# Altium schematic symbol library Schlib1.SchLib: 7 symbols
Pins are listed as number, name and electrical type; pins without a type are passive.

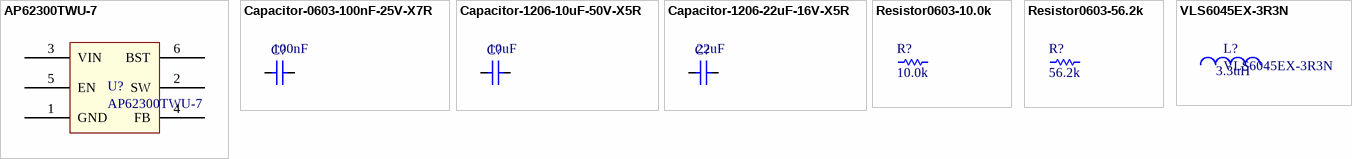
[diagram p0: symbols AP62300TWU-7 to VLS6045EX-3R3N]

## AP62300TWU-7
designator U?
Buck Switching Regulator IC Positive Adjustable 0.8V 1 Output 3A SOT-23-6 Thin, TSOT-23-6; Current: 3; Supplier 1: Digi-Key; Mounted: Yes; Package / Case: SMD SOT-23-6; Supplier Number: 31-AP62300TWU-7TR-ND
pins: 1 GND, 2 SW, 3 VIN, 4 FB, 5 EN, 6 BST

## Capacitor-0603-100nF-25V-X7R
designator C?  value 100nF  (hidden comment: Capacitor-0603-100nF-25V-X7R)
Precision: X7R-10%; Volt: 25V; Package / Case: Metric 1608, EIA 0603; Mounted: Yes; Supplier 1: Digi-Key; Supplier Part Number 1: 445-5667-1-ND; Supplier 2: Digi-Key; Supplier 3: Digi-Key; Supplier 4: Digi-Key; Supplier Part Number 2: 587-3468-1-ND; Supplier Part Number 3: 1276-6717-1-ND; Supplier Part Number 4: 399-6854-1-ND
footprint CAPACITOR-0603 (Metric 1608, EIA 0603)
pins: 1, 2

## Capacitor-1206-10uF-50V-X5R
designator C?  value 10uF  (hidden comment: Capacitor-1206-10uF-50V-X5R)
Volt: 50V; Precision: X5R-20%; Package / Case: Metric 3216, EIA 1206; Mounted: Yes; Supplier 1: Digi-Key; Supplier Part Number 1: 490-12456-1-ND; Supplier 2: Digi-Key; Supplier 3: Digi-Key; Supplier Part Number 2: 445-7886-1-ND; Supplier Part Number 3: 445-12883-1-ND
footprint CAPACITOR-1206 (Metric 3216, EIA 1206)
pins: 1, 2

## Capacitor-1206-22uF-16V-X5R
designator C?  value 22uF  (hidden comment: Capacitor-1206-22uF-16V-X5R)
Volt: 16V; Precision: X5R-20%; Package / Case: Metric 3216, EIA 1206; Mounted: Yes; Supplier 1: Digi-Key; Supplier Part Number 1: 587-3330-1-ND; Supplier 2: Digi-Key; Supplier 3: Digi-Key; Supplier 4: Digi-Key; Supplier Part Number 2: 490-12410-1-ND; Supplier Part Number 3: 490-12409-1-ND; Supplier Part Number 4: 445-12847-1-ND
footprint CAPACITOR-1206 (Metric 3216, EIA 1206)
pins: 1, 2

## Resistor0603-10.0k
designator R?, comment value 10.0k  (hidden comment: SMT resistor)
Resistor; Precision: 1%; Watt: 0.1W; Mounted: Yes; Package / Case: Metric 1608, EIA 0603; Supplier 1: Digi-Key; Supplier 2: Digi-Key; Supplier 3: Digi-Key; Supplier 4: Digi-Key; Supplier Part Number 1: P10.0kHTR-ND; Supplier Part Number 2: 311-10.0kHRTR-ND; Supplier Part Number 3: RHM10.0kCFTR-ND; Supplier Part Number 4: 541-10.0kHTR-ND
footprint Resistor-0603
pins: 1, 2

## Resistor0603-56.2k
designator R?, comment value 56.2k  (hidden comment: SMT resistor)
Resistor; Precision: 1%; Watt: 0.1W; Mounted: Yes; Package / Case: Metric 1608, EIA 0603; Supplier 1: Digi-Key; Supplier 2: Digi-Key; Supplier 3: Digi-Key; Supplier 4: Digi-Key; Supplier Part Number 1: P56.2kHTR-ND; Supplier Part Number 2: 311-56.2kHRTR-ND; Supplier Part Number 3: RHM56.2kCFTR-ND; Supplier Part Number 4: 541-56.2kHTR-ND
footprint Resistor-0603
pins: 1, 2

## VLS6045EX-3R3N
designator L?  value 3.3uH
3.3 µH Shielded Drum Core, Wirewound Inductor 4.95 A 23mOhm Nonstandard; Current: 4.95; Precision: 30%; Supplier 1: Digi-Key; Mounted: Yes; Package / Case: SMD; Supplier Number: 445-173052-2-ND
pins: 1, 2